# Altium schematic symbol library C1812.Schlib: 1 symbol
Pins are listed as number, name and electrical type; pins without a type are passive.

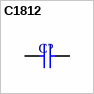
[diagram p0: symbol C1812]

## C1812
designator C?  (value not drawn)
1812 Ceramic Chip Capacitor - Standard
pins: 1, 2